# EAGLE library part ADF4351 (library balto)
Wideband Synthesizer with Integrated VCO
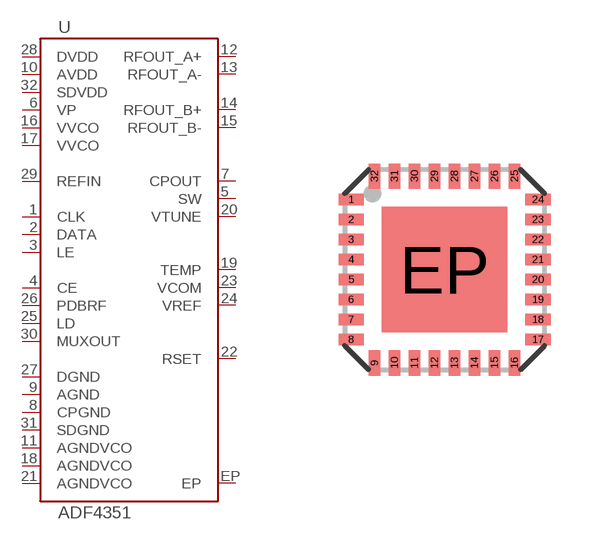
[diagram p48: symbol with the pads of LFCSP32; footprint LFCSP32]

Designator prefix U

## ADF4351  [LFCSP32]
1  CLK
2  DATA
3  LE
4  CE
5  SW
6  VP
7  CPOUT
8  CPGND
9  AGND
10  AVDD
11  AGNDVCO
12  RFOUT_A+
13  RFOUT_A-
14  RFOUT_B+
15  RFOUT_B-
16  VVCO
17  VVCO
18  AGNDVCO
19  TEMP
20  VTUNE
21  AGNDVCO
22  RSET
23  VCOM
24  VREF
25  LD
26  PDBRF
27  DGND
28  DVDD
29  REFIN
30  MUXOUT
31  SDGND
32  SDVDD
EP  EP

## Footprint LFCSP32 (pad centres in mm)
32-Lead Lead Frame Chip Scale Package (LFCSP_VQ)
smd 0.63 x 0.28: 1 -2.335,1.75; 2 -2.335,1.25; 3 -2.335,0.75; 4 -2.335,0.25; 5 -2.335,-0.25; 6 -2.335,-0.75; 7 -2.335,-1.25; 8 -2.335,-1.75; 17 2.335,-1.75; 18 2.335,-1.25; 19 2.335,-0.75; 20 2.335,-0.25; 21 2.335,0.25; 22 2.335,0.75; 23 2.335,1.25; 24 2.335,1.75
smd 0.28 x 0.63: 9 -1.75,-2.335; 10 -1.25,-2.335; 11 -0.75,-2.335; 12 -0.25,-2.335; 13 0.25,-2.335; 14 0.75,-2.335; 15 1.25,-2.335; 16 1.75,-2.335; 25 1.75,2.335; 26 1.25,2.335; 27 0.75,2.335; 28 0.25,2.335; 29 -0.25,2.335; 30 -0.75,2.335; 31 -1.25,2.335; 32 -1.75,2.335
smd 3.14 x 3.14: EP 0,0